# Altium schematic symbol library ExpressCardConnectors.SchLib: 1 symbol
Pins are listed as number, name and electrical type; pins without a type are passive.

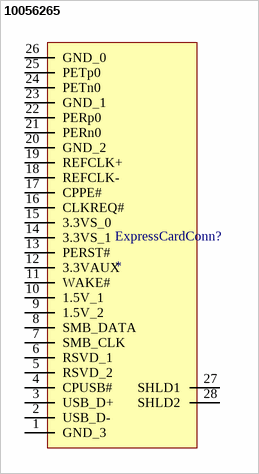
[diagram p0: symbol 10056265]

## 10056265
designator ExpressCardConn?
Digikey Part Number: 609-1073-1-ND
footprint ExpressCardConn
pins: 1 GND_3, 2 USB_D-, 3 USB_D+, 4 CPUSB#, 5 RSVD_2, 6 RSVD_1, 7 SMB_CLK, 8 SMB_DATA, 9 1.5V_2, 10 1.5V_1, 11 WAKE#, 12 3.3VAUX, 13 PERST#, 14 3.3VS_1, 15 3.3VS_0, 16 CLKREQ#, 17 CPPE#, 18 REFCLK-, 19 REFCLK+, 20 GND_2, 21 PERn0, 22 PERp0, 23 GND_1, 24 PETn0, 25 PETp0, 26 GND_0, 27 SHLD1, 28 SHLD2